# EAGLE library part PFS154-S16 (library alvie)
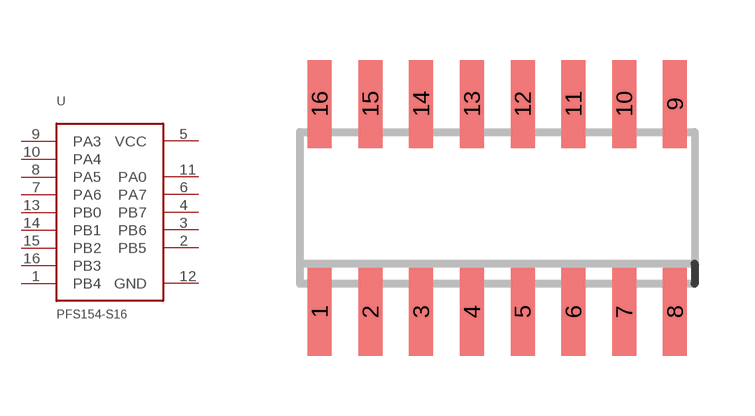
[diagram p72: symbol with the pads of SOIC16-N; footprint SOIC16-N]

Designator prefix -

## PFS154-S16  [SOIC16-N]
1  PB4  pas
2  PB5  pas
3  PB6  pas
4  PB7  pas
5  VCC  pwr
6  PA7  pas
7  PA6  pas
8  PA5  pas
9  PA3  pas
10  PA4  pas
11  PA0  pas
12  GND  pwr
13  PB0  pas
14  PB1  pas
15  PB2  pas
16  PB3  pas

## Footprint SOIC16-N (pad centres in mm)
smd 0.6 x 2.2: 1 -4.44,-2.645; 2 -3.17,-2.645; 3 -1.9,-2.645; 4 -0.63,-2.645; 5 0.64,-2.645; 6 1.91,-2.645; 7 3.18,-2.645; 8 4.45,-2.645; 9 4.45,2.555; 10 3.18,2.555; 11 1.91,2.555; 12 0.64,2.555; 13 -0.63,2.555; 14 -1.9,2.555; 15 -3.17,2.555; 16 -4.44,2.555